# Altium schematic symbol library TPS75901KTTR.SchLib: 1 symbol
Pins are listed as number, name and electrical type; pins without a type are passive.

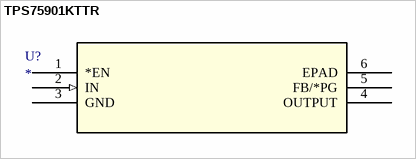
[diagram p0: symbol TPS75901KTTR]

## TPS75901KTTR
designator U?
Imported; Manufacturer Part Number: TPS75901KTTR; Vendor: Texas Instruments; Built_By: EMA_UL_Team; C: Copyright (C) 2015 Accelerated Designs. All rights reserved; Manufacturer: Texas Instruments; RefDes: RefDes; Type: DEV; Value: Value
footprint TO-263-5 (D2-PAK, 6-Pads, Body 8,9x9,9mm (max), IPC Low Density)
footprint TO-263-5 (D2-PAK, 6-Pads, Body 8,9x9,9mm (max), IPC Low Density)
pins: 1 *EN, 2 IN (in), 3 GND (power), 4 OUTPUT (power), 5 FB/*PG, 6 EPAD